# EAGLE library part SI4618DY-T1-GE3 (library Vishay_By_element14_Batch_1)
Dual N-Channel 30-V (D-S) MOSFET with Schottky Diode
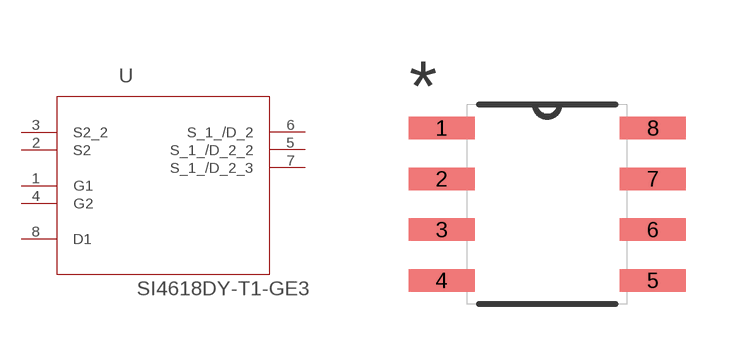
[diagram p90: symbol with the pads of SOIC127P600X175-8N; footprint SOIC127P600X175-8N]

Designator prefix U

## SI4618DY-T1-GE3 (MPN: SI4618DY-T1-GE3; OC_FARNELL: 2056724; OC_NEWARK: 64T4070; PACKAGE: SOIC-8; SUPPLIER: VISHAY SILICONIX)  [SOIC127P600X175-8N]
1  G1  pas
2  S2  pas
3  S2_2  pas
4  G2  pas
5  S_1_/D_2_2  pas
6  S_1_/D_2  pas
7  S_1_/D_2_3  pas
8  D1  pas

## Footprint SOIC127P600X175-8N (pad centres in mm)
smd 1.651 x 0.559: 1 -2.642,1.905; 2 -2.642,0.635; 3 -2.642,-0.635; 4 -2.642,-1.905; 5 2.642,-1.905; 6 2.642,-0.635; 7 2.642,0.635; 8 2.642,1.905